# Altium integrated library Resistor 0603.IntLib: 149 symbols (part 1 of 2)
Pins are listed as number, name and electrical type; pins without a type are passive.

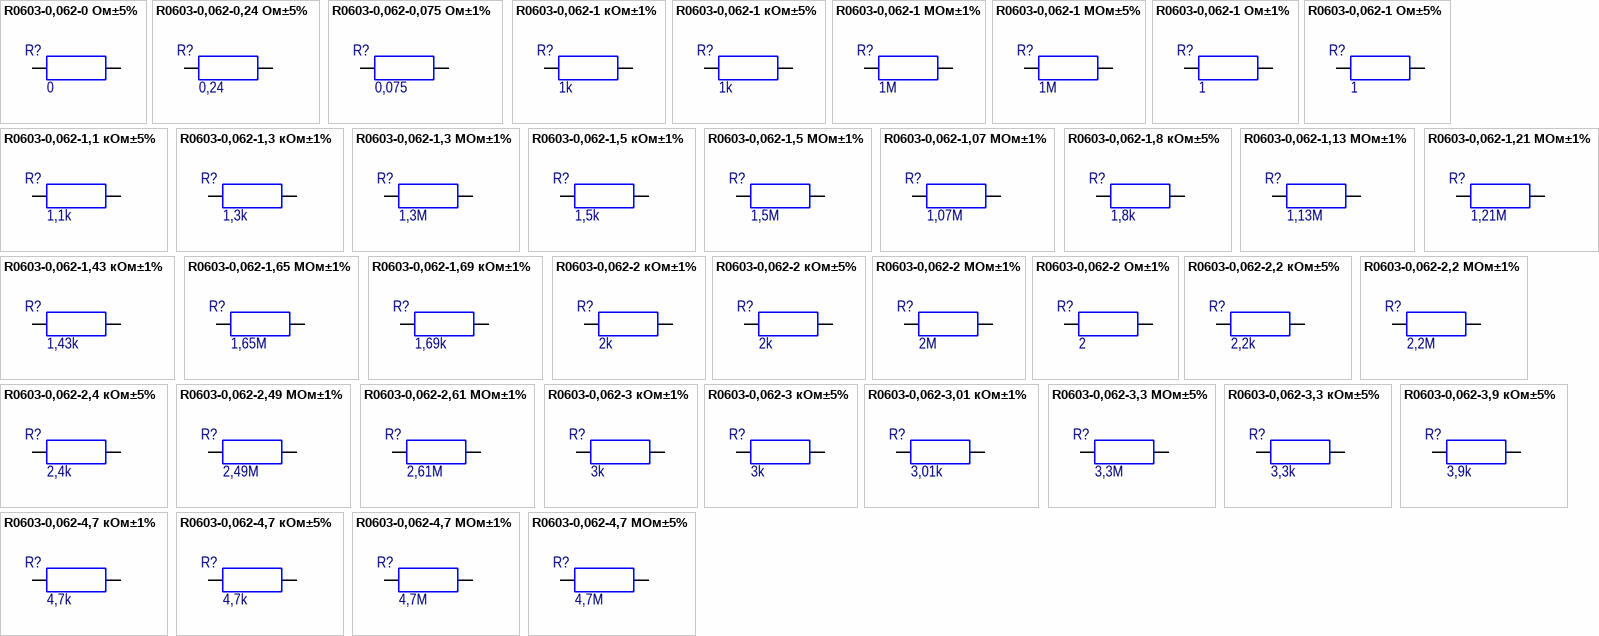
[diagram p0: symbols R0603-0,062-0 Ом±5% to R0603-0,062-4,7 МОм±5%]

## R0603-0,062-0 Ом±5%
designator R?  value 0
RES 0.0 OHM 1/10W JUMP 0603 SMD; Manufacturer: Vishay Dale; ManufacturerPartNumber: CRCW06030000Z0; Group: 9130; RegulationProcent: 10; TypeName: Резистор; Distributor: Digi-Key; DistributorPartNumber: 541-0.0GCT-ND; LatestRevisionDate: 10.07.2013; Library: Resistor 0603; Package: 1608 [0603]; Published: 10.07.2013; Publisher: Konon DI
footprint RESC1608N [0603] (Chip Resistor, Body 1.6x0.8mm, IPC Medium Density)
signal-integrity model Resistor
pins: 1, 2

## R0603-0,062-0,24 Ом±5%
designator R?  value 0,24
RES SMD 0.24 OHM 5% 1/10W 0603; Manufacturer: Vishay Dale; ManufacturerPartNumber: RCWL0603R240JQ; Group: 9130; RegulationProcent: 10; TypeName: Резистор; Distributor: Digi-Key; DistributorPartNumber: RCWL.24CCT-ND; LatestRevisionDate: 24.05.2016; Library: Resistor 0603; Package: 1608 [0603]; Published: 24.05.2016; Publisher: Stanchik A
footprint RESC1608N [0603] (Chip Resistor, Body 1.6x0.8mm, IPC Medium Density)
signal-integrity model Resistor
pins: 1, 2

## R0603-0,062-0,075 Ом±1%
designator R?  value 0,075
RES SMD 0.075 OHM 1% 1/5W 0603; Manufacturer: Vishay Dale; ManufacturerPartNumber: RCWE060375L0FN; Group: 9130; RegulationProcent: 10; TypeName: Резистор; Distributor: Digi-Key; DistributorPartNumber: 541-2718-1-ND; LatestRevisionDate: 02.05.2016; Library: Resistor 0603; Package: 1608 [0603]; Published: 02.05.2016; Publisher: Stanchik A
footprint RESC1608N [0603] (Chip Resistor, Body 1.6x0.8mm, IPC Medium Density)
signal-integrity model Resistor
pins: 1, 2

## R0603-0,062-1 кОм±1%
designator R?  value 1k
RES 1.00K OHM 1/10W 1% 0603 SMD; Manufacturer: Vishay Dale; ManufacturerPartNumber: CRCW06031K00FK; Group: 9130; RegulationProcent: 10; TypeName: Резистор; Distributor: Digi-Key; DistributorPartNumber: 541-1.00KHDKR-ND; LatestRevisionDate: 09.07.2014; Library: Resistor 0603; Package: 1608 [0603]; Published: 09.07.2014; Publisher: Stanchik A
footprint RESC1608N [0603] (Chip Resistor, Body 1.6x0.8mm, IPC Medium Density)
signal-integrity model Resistor
pins: 1, 2

## R0603-0,062-1 кОм±5%
designator R?  value 1k
RES 1.0K OHM 1/10W 5% 0603 SMD; Manufacturer: Vishay Dale; ManufacturerPartNumber: CRCW06031K00JN; Group: 9130; RegulationProcent: 10; TypeName: Резистор; Distributor: Digi-Key; DistributorPartNumber: 541-1.0KGCT-ND; LatestRevisionDate: 10.07.2013; Library: Resistor 0603; Package: 1608 [0603]; Published: 10.07.2013; Publisher: Konon DI
footprint RESC1608N [0603] (Chip Resistor, Body 1.6x0.8mm, IPC Medium Density)
signal-integrity model Resistor
pins: 1, 2

## R0603-0,062-1 МОм±1%
designator R?  value 1M
RES 1.00M OHM 1/10W 1% 0603 SMD; Manufacturer: Vishay Dale; ManufacturerPartNumber: CRCW06031M00FK; Group: 9130; RegulationProcent: 10; TypeName: Резистор; Distributor: Digi-Key; DistributorPartNumber: 541-1.00MHDKR-ND; LatestRevisionDate: 23.10.2014; Library: Resistor 0603; Package: 1608 [0603]; Published: 23.10.2014; Publisher: Stanchik A
footprint RESC1608N [0603] (Chip Resistor, Body 1.6x0.8mm, IPC Medium Density)
signal-integrity model Resistor
pins: 1, 2

## R0603-0,062-1 МОм±5%
designator R?  value 1M
RES 1.00M OHM 1/10W 5% 0603 SMD; Manufacturer: Vishay Dale; ManufacturerPartNumber: CRCW06031M00JN; Group: 9130; RegulationProcent: 10; TypeName: Резистор; Distributor: Digi-Key; DistributorPartNumber: 541-1.0MGCT-ND; LatestRevisionDate: 05.03.2015; Library: Resistor 0603; Package: 1608 [0603]; Published: 05.03.2015; Publisher: Stanchik A
footprint RESC1608N [0603] (Chip Resistor, Body 1.6x0.8mm, IPC Medium Density)
signal-integrity model Resistor
pins: 1, 2

## R0603-0,062-1 Ом±1%
designator R?  value 1
RES 1.00 OHM 1/10W 1% 0603 SMD; Manufacturer: Vishay Dale; ManufacturerPartNumber: CRCW06031R00FK; Group: 9130; RegulationProcent: 10; TypeName: Резистор; Distributor: Digi-Key; DistributorPartNumber: 541-1.00HHCT-ND; LatestRevisionDate: 10.07.2013; Library: Resistor 0603; Package: 1608 [0603]; Published: 10.07.2013; Publisher: Konon DI
footprint RESC1608N [0603] (Chip Resistor, Body 1.6x0.8mm, IPC Medium Density)
signal-integrity model Resistor
pins: 1, 2

## R0603-0,062-1 Ом±5%
designator R?  value 1
RES 1.0 OHM 1/10W 5% 0603 SMD; Manufacturer: Vishay Dale; ManufacturerPartNumber: CRCW06031R00JN; Group: 9130; RegulationProcent: 10; TypeName: Резистор; Distributor: Digi-Key; DistributorPartNumber: 541-1.0GCT-ND; LatestRevisionDate: 10.07.2013; Library: Resistor 0603; Package: 1608 [0603]; Published: 10.07.2013; Publisher: Konon DI
footprint RESC1608N [0603] (Chip Resistor, Body 1.6x0.8mm, IPC Medium Density)
signal-integrity model Resistor
pins: 1, 2

## R0603-0,062-1,1 кОм±5%
designator R?  value 1,1k
RES 1.1K OHM 1/10W 5% 0603 SMD; Manufacturer: Vishay Dale; ManufacturerPartNumber: CRCW06031K10JN; Group: 9130; RegulationProcent: 10; TypeName: Резистор; Distributor: Digi-Key; DistributorPartNumber: 541-1.1KGCT-ND; LatestRevisionDate: 10.07.2013; Library: Resistor 0603; Package: 1608 [0603]; Published: 10.07.2013; Publisher: Konon DI
footprint RESC1608N [0603] (Chip Resistor, Body 1.6x0.8mm, IPC Medium Density)
signal-integrity model Resistor
pins: 1, 2

## R0603-0,062-1,3 кОм±1%
designator R?  value 1,3k
RES SMD 1.3K OHM 1% 1/10W 0603; Manufacturer: Vishay Dale; ManufacturerPartNumber: CRCW06031K30FK; Group: 9130; RegulationProcent: 10; TypeName: Резистор; Distributor: Digi-Key; DistributorPartNumber: 541-1.30KHCT-ND; LatestRevisionDate: 14.07.2017; Library: Resistor 0603; Package: 1608 [0603]; Published: 14.07.2017; Publisher: Stanchik A
footprint RESC1608N [0603] (Chip Resistor, Body 1.6x0.8mm, IPC Medium Density)
signal-integrity model Resistor
pins: 1, 2

## R0603-0,062-1,3 МОм±1%
designator R?  value 1,3M
RES SMD 1.3M OHM 1% 1/10W 0603; Manufacturer: Vishay Dale; ManufacturerPartNumber: CRCW06031M30FK; Group: 9130; RegulationProcent: 10; TypeName: Резистор; Distributor: Digi-Key; DistributorPartNumber: 541-1.30MHCT-ND; LatestRevisionDate: 26.10.2016; Library: Resistor 0603; Package: 1608 [0603]; Published: 26.10.2016; Publisher: Stanchik A
footprint RESC1608N [0603] (Chip Resistor, Body 1.6x0.8mm, IPC Medium Density)
signal-integrity model Resistor
pins: 1, 2

## R0603-0,062-1,5 кОм±1%
designator R?  value 1,5k
RES SMD 1.5K OHM 1% 1/10W 0603; Manufacturer: Vishay Dale; ManufacturerPartNumber: CRCW06031K50FK; Group: 9130; RegulationProcent: 10; TypeName: Резистор; Distributor: Digi-Key; DistributorPartNumber: 541-1.50KHCT-ND; LatestRevisionDate: 16.07.2015; Library: Resistor 0603; Package: 1608 [0603]; Published: 16.07.2015; Publisher: Stanchik A
footprint RESC1608N [0603] (Chip Resistor, Body 1.6x0.8mm, IPC Medium Density)
signal-integrity model Resistor
pins: 1, 2

## R0603-0,062-1,5 МОм±1%
designator R?  value 1,5M
RES SMD 1.5M OHM 1% 1/10W 0603; Manufacturer: Vishay Dale; ManufacturerPartNumber: CRCW06031M50FK; Group: 9130; RegulationProcent: 10; TypeName: Резистор; Distributor: Digi-Key; DistributorPartNumber: 541-1.50MHCT-ND; LatestRevisionDate: 10.01.2015; Library: Resistor 0603; Package: 1608 [0603]; Published: 10.01.2015; Publisher: Stanchik A
footprint RESC1608N [0603] (Chip Resistor, Body 1.6x0.8mm, IPC Medium Density)
signal-integrity model Resistor
pins: 1, 2

## R0603-0,062-1,07 МОм±1%
designator R?  value 1,07M
RES SMD 1.07M OHM 1% 1/10W 0603; Manufacturer: Vishay Dale; ManufacturerPartNumber: CRCW06031M07FK; Group: 9130; RegulationProcent: 10; TypeName: Резистор; Distributor: Digi-Key; DistributorPartNumber: 541-1.07MHCT-ND; LatestRevisionDate: 14.07.2017; Library: Resistor 0603; Package: 1608 [0603]; Published: 14.07.2017; Publisher: Stanchik A
footprint RESC1608N [0603] (Chip Resistor, Body 1.6x0.8mm, IPC Medium Density)
signal-integrity model Resistor
pins: 1, 2

## R0603-0,062-1,8 кОм±5%
designator R?  value 1,8k
RES 1.8K OHM 1/10W 5% 0603 SMD; Manufacturer: Vishay Dale; ManufacturerPartNumber: CRCW06031K80JN; Group: 9130; RegulationProcent: 10; TypeName: Резистор; Distributor: Digi-Key; DistributorPartNumber: 541-1.8KGDKR-ND; LatestRevisionDate: 10.07.2014; Library: Resistor 0603; Package: 1608 [0603]; Published: 10.07.2014; Publisher: Stanchik A
footprint RESC1608N [0603] (Chip Resistor, Body 1.6x0.8mm, IPC Medium Density)
signal-integrity model Resistor
pins: 1, 2

## R0603-0,062-1,13 МОм±1%
designator R?  value 1,13M
RES 1.13M OHM 1/10W 1% 0603 SMD; Manufacturer: Vishay Dale; ManufacturerPartNumber: CRCW06031M13FK; Group: 9130; RegulationProcent: 10; TypeName: Резистор; Distributor: Digi-Key; DistributorPartNumber: 541-1.13MHCT-ND; LatestRevisionDate: 10.07.2013; Library: Resistor 0603; Package: 1608 [0603]; Published: 10.07.2013; Publisher: Konon DI
footprint RESC1608N [0603] (Chip Resistor, Body 1.6x0.8mm, IPC Medium Density)
signal-integrity model Resistor
pins: 1, 2

## R0603-0,062-1,21 МОм±1%
designator R?  value 1,21M
RES 1.21M OHM 1/10W 1% 0603 SMD; Manufacturer: Vishay Dale; ManufacturerPartNumber: CRCW06031M21FK; Group: 9130; RegulationProcent: 10; TypeName: Резистор; Distributor: Digi-Key; DistributorPartNumber: 541-1.21MHCT-ND; LatestRevisionDate: 10.07.2013; Library: Resistor 0603; Package: 1608 [0603]; Published: 10.07.2013; Publisher: Konon DI
footprint RESC1608N [0603] (Chip Resistor, Body 1.6x0.8mm, IPC Medium Density)
signal-integrity model Resistor
pins: 1, 2

## R0603-0,062-1,43 кОм±1%
designator R?  value 1,43k
RES 1.43K OHM 1/10W 1% 0603 SMD; Manufacturer: Vishay Dale; ManufacturerPartNumber: CRCW06031K43FK; Group: 9130; RegulationProcent: 10; TypeName: Резистор; Distributor: Digi-Key; DistributorPartNumber: 541-1.43KHDKR-ND; LatestRevisionDate: 09.07.2014; Library: Resistor 0603; Package: 1608 [0603]; Published: 09.07.2014; Publisher: Stanchik A
footprint RESC1608N [0603] (Chip Resistor, Body 1.6x0.8mm, IPC Medium Density)
signal-integrity model Resistor
pins: 1, 2

## R0603-0,062-1,65 МОм±1%
designator R?  value 1,65M
RES SMD 1.65M OHM 1% 1/10W 0603; Manufacturer: Vishay Dale; ManufacturerPartNumber: CRCW06031M65FK; Group: 9130; RegulationProcent: 10; TypeName: Резистор; Distributor: Digi-Key; DistributorPartNumber: 541-1.65MHCT-ND; LatestRevisionDate: 27.10.2016; Library: Resistor 0603; Package: 1608 [0603]; Published: 27.10.2016; Publisher: Stanchik A
footprint RESC1608N [0603] (Chip Resistor, Body 1.6x0.8mm, IPC Medium Density)
signal-integrity model Resistor
pins: 1, 2

## R0603-0,062-1,69 кОм±1%
designator R?  value 1,69k
RES SMD 1.69K OHM 1% 1/10W 0603; Manufacturer: Vishay Dale; ManufacturerPartNumber: CRCW06031K69FK; Group: 9130; RegulationProcent: 10; TypeName: Резистор; Distributor: Digi-Key; DistributorPartNumber: 541-1.69KHCT-ND; LatestRevisionDate: 15.04.2016; Library: Resistor 0603; Package: 1608 [0603]; Published: 15.04.2016; Publisher: Stanchik A
footprint RESC1608N [0603] (Chip Resistor, Body 1.6x0.8mm, IPC Medium Density)
signal-integrity model Resistor
pins: 1, 2

## R0603-0,062-2 кОм±1%
designator R?  value 2k
RES 2.00K OHM 1/10W 1% 0603 SMD; Manufacturer: Vishay Dale; ManufacturerPartNumber: CRCW06032K00FK; Group: 9130; RegulationProcent: 10; TypeName: Резистор; Distributor: Digi-Key; DistributorPartNumber: 541-2.00KHDKR-ND; LatestRevisionDate: 09.07.2014; Library: Resistor 0603; Package: 1608 [0603]; Published: 09.07.2014; Publisher: Stanchik A
footprint RESC1608N [0603] (Chip Resistor, Body 1.6x0.8mm, IPC Medium Density)
signal-integrity model Resistor
pins: 1, 2

## R0603-0,062-2 кОм±5%
designator R?  value 2k
RES SMD 2K OHM 5% 1/10W 0603; Manufacturer: Vishay Dale; ManufacturerPartNumber: CRCW06032K00JN; Group: 9130; RegulationProcent: 10; TypeName: Резистор; Distributor: Digi-Key; DistributorPartNumber: 541-2.0KGCT-ND; LatestRevisionDate: 01.11.2016; Library: Resistor 0603; Package: 1608 [0603]; Published: 01.11.2016; Publisher: Stanchik A
footprint RESC1608N [0603] (Chip Resistor, Body 1.6x0.8mm, IPC Medium Density)
signal-integrity model Resistor
pins: 1, 2

## R0603-0,062-2 МОм±1%
designator R?  value 2M
RES SMD 2M OHM 1% 1/10W 0603; Manufacturer: Vishay Dale; ManufacturerPartNumber: CRCW06032M00FK; Group: 9130; RegulationProcent: 10; TypeName: Резистор; Distributor: Digi-Key; DistributorPartNumber: 541-2.00MHCT-ND; LatestRevisionDate: 10.01.2015; Library: Resistor 0603; Package: 1608 [0603]; Published: 10.01.2015; Publisher: Stanchik A
footprint RESC1608N [0603] (Chip Resistor, Body 1.6x0.8mm, IPC Medium Density)
signal-integrity model Resistor
pins: 1, 2

## R0603-0,062-2 Ом±1%
designator R?  value 2
RES SMD 2 OHM 1% 1/10W 0603; Manufacturer: Vishay Dale; ManufacturerPartNumber: CRCW06032R00FK; Group: 9130; RegulationProcent: 10; TypeName: Резистор; Distributor: Digi-Key; DistributorPartNumber: 541-2.00HHCT-ND; LatestRevisionDate: 23.10.2017; Library: Resistor 0603; Package: 1608 [0603]; Published: 23.10.2017; Publisher: Stanchik A
footprint RESC1608N [0603] (Chip Resistor, Body 1.6x0.8mm, IPC Medium Density)
signal-integrity model Resistor
pins: 1, 2

## R0603-0,062-2,2 кОм±5%
designator R?  value 2,2k
RES 2.2K OHM 1/10W 5% 0603 SMD; Manufacturer: Vishay Dale; ManufacturerPartNumber: CRCW06032K20JN; Group: 9130; RegulationProcent: 10; TypeName: Резистор; Distributor: Digi-Key; DistributorPartNumber: 541-2.2KGCT-ND; LatestRevisionDate: 10.07.2013; Library: Resistor 0603; Package: 1608 [0603]; Published: 10.07.2013; Publisher: Konon DI
footprint RESC1608N [0603] (Chip Resistor, Body 1.6x0.8mm, IPC Medium Density)
signal-integrity model Resistor
pins: 1, 2

## R0603-0,062-2,2 МОм±1%
designator R?  value 2,2M
RES SMD 2.2M OHM 1% 1/10W 0603; Manufacturer: Vishay Dale; ManufacturerPartNumber: CRCW06032M20FK; Group: 9130; RegulationProcent: 10; TypeName: Резистор; Distributor: Digi-Key; DistributorPartNumber: 541-2.20MHCT-ND; LatestRevisionDate: 07.10.2016; Library: Resistor 0603; Package: 1608 [0603]; Published: 07.10.2016; Publisher: Stanchik A
footprint RESC1608N [0603] (Chip Resistor, Body 1.6x0.8mm, IPC Medium Density)
signal-integrity model Resistor
pins: 1, 2

## R0603-0,062-2,4 кОм±5%
designator R?  value 2,4k
RES SMD 2.4K OHM 5% 1/10W 0603; Manufacturer: Vishay Dale; ManufacturerPartNumber: CRCW06032K40JN; Group: 9130; RegulationProcent: 10; TypeName: Резистор; Distributor: Digi-Key; DistributorPartNumber: 541-2.4KGCT-ND; LatestRevisionDate: 01.11.2016; Library: Resistor 0603; Package: 1608 [0603]; Published: 01.11.2016; Publisher: Stanchik A
footprint RESC1608N [0603] (Chip Resistor, Body 1.6x0.8mm, IPC Medium Density)
signal-integrity model Resistor
pins: 1, 2

## R0603-0,062-2,49 МОм±1%
designator R?  value 2,49M
RES SMD 2.49M OHM 1% 1/10W 0603; Manufacturer: Vishay Dale; ManufacturerPartNumber: CRCW06032M49FK; Group: 9130; RegulationProcent: 10; TypeName: Резистор; Distributor: Digi-Key; DistributorPartNumber: 541-2.49MHCT-ND; LatestRevisionDate: 14.07.2017; Library: Resistor 0603; Package: 1608 [0603]; Published: 14.07.2017; Publisher: Stanchik A
footprint RESC1608N [0603] (Chip Resistor, Body 1.6x0.8mm, IPC Medium Density)
signal-integrity model Resistor
pins: 1, 2

## R0603-0,062-2,61 МОм±1%
designator R?  value 2,61M
RES SMD 2.61M OHM 1% 1/10W 0603; Manufacturer: Vishay Dale; ManufacturerPartNumber: CRCW06032M61FK; Group: 9130; RegulationProcent: 10; TypeName: Резистор; Distributor: Digi-Key; DistributorPartNumber: 541-2.61MHCT-ND; LatestRevisionDate: 14.07.2017; Library: Resistor 0603; Package: 1608 [0603]; Published: 14.07.2017; Publisher: Stanchik A
footprint RESC1608N [0603] (Chip Resistor, Body 1.6x0.8mm, IPC Medium Density)
signal-integrity model Resistor
pins: 1, 2

## R0603-0,062-3 кОм±1%
designator R?  value 3k
RES SMD 3K OHM 1% 1/10W 0603; Manufacturer: Vishay Dale; ManufacturerPartNumber: CRCW06033K00FK; Group: 9130; RegulationProcent: 10; TypeName: Резистор; Distributor: Digi-Key; DistributorPartNumber: 541-3.00KHCT-ND; LatestRevisionDate: 29.12.2016; Library: Resistor 0603; Package: 1608 [0603]; Published: 29.12.2016; Publisher: Stanchik A
footprint RESC1608N [0603] (Chip Resistor, Body 1.6x0.8mm, IPC Medium Density)
signal-integrity model Resistor
pins: 1, 2

## R0603-0,062-3 кОм±5%
designator R?  value 3k
RES SMD 3K OHM 5% 1/10W 0603; Manufacturer: Vishay Dale; ManufacturerPartNumber: CRCW06033K00JN; Group: 9130; RegulationProcent: 10; TypeName: Резистор; Distributor: Digi-Key; DistributorPartNumber: 541-3.0KGCT-ND; LatestRevisionDate: 25.06.2015; Library: Resistor 0603; Package: 1608 [0603]; Published: 25.06.2015; Publisher: Stanchik A
footprint RESC1608N [0603] (Chip Resistor, Body 1.6x0.8mm, IPC Medium Density)
signal-integrity model Resistor
pins: 1, 2

## R0603-0,062-3,01 кОм±1%
designator R?  value 3,01k
RES SMD 3.01K OHM 1% 1/10W 0603; Manufacturer: Vishay Dale; ManufacturerPartNumber: CRCW06033K01FK; Group: 9130; RegulationProcent: 10; TypeName: Резистор; Distributor: Digi-Key; DistributorPartNumber: 541-3.01KHCT-ND; LatestRevisionDate: 17.02.2015; Library: Resistor 0603; Package: 1608 [0603]; Published: 17.02.2015; Publisher: Stanchik A
footprint RESC1608N [0603] (Chip Resistor, Body 1.6x0.8mm, IPC Medium Density)
signal-integrity model Resistor
pins: 1, 2

## R0603-0,062-3,3 MОм±5%
designator R?  value 3,3M
RES 3.3M OHM 1/10W 5% 0603 SMD; Manufacturer: Vishay Dale; ManufacturerPartNumber: CRCW06033M30JN; Group: 9130; RegulationProcent: 10; TypeName: Резистор; Distributor: Digi-Key; DistributorPartNumber: 541-3.3MGCT-ND; LatestRevisionDate: 10.07.2013; Library: Resistor 0603; Package: 1608 [0603]; Published: 03.10.2013; Publisher: Auchinik
footprint RESC1608N [0603] (Chip Resistor, Body 1.6x0.8mm, IPC Medium Density)
signal-integrity model Resistor
pins: 1, 2

## R0603-0,062-3,3 кОм±5%
designator R?  value 3,3k
RES 3.3K OHM 1/10W 5% 0603 SMD; Manufacturer: Vishay Dale; ManufacturerPartNumber: CRCW06033K30JN; Group: 9130; RegulationProcent: 10; TypeName: Резистор; Distributor: Digi-Key; DistributorPartNumber: 541-3.3KGCT-ND; LatestRevisionDate: 10.07.2013; Library: Resistor 0603; Package: 1608 [0603]; Published: 10.07.2013; Publisher: Konon DI
footprint RESC1608N [0603] (Chip Resistor, Body 1.6x0.8mm, IPC Medium Density)
signal-integrity model Resistor
pins: 1, 2

## R0603-0,062-3,9 кОм±5%
designator R?  value 3,9k
RES SMD 3.9K OHM 5% 1/10W 0603; Manufacturer: Vishay Dale; ManufacturerPartNumber: CRCW06033K90JN; Group: 9130; RegulationProcent: 10; TypeName: Резистор; Distributor: Digi-Key; DistributorPartNumber: 541-3.9KGCT-ND; LatestRevisionDate: 20.09.2016; Library: Resistor 0603; Package: 1608 [0603]; Published: 20.09.2016; Publisher: Stanchik A
footprint RESC1608N [0603] (Chip Resistor, Body 1.6x0.8mm, IPC Medium Density)
signal-integrity model Resistor
pins: 1, 2

## R0603-0,062-4,7 кОм±1%
designator R?  value 4,7k
RES SMD 4.7K OHM 1% 1/10W 0603; Manufacturer: Vishay Dale; ManufacturerPartNumber: CRCW06034K70FK; Group: 9130; RegulationProcent: 10; TypeName: Резистор; Distributor: Digi-Key; DistributorPartNumber: 541-4.70KHCT-ND; LatestRevisionDate: 16.01.2017; Library: Resistor 0603; Package: 1608 [0603]; Published: 16.01.2017; Publisher: Stanchik A
footprint RESC1608N [0603] (Chip Resistor, Body 1.6x0.8mm, IPC Medium Density)
signal-integrity model Resistor
pins: 1, 2

## R0603-0,062-4,7 кОм±5%
designator R?  value 4,7k
RES 4.7K OHM 1/10W 5% 0603 SMD; Manufacturer: Vishay Dale; ManufacturerPartNumber: CRCW06034K70JN; Group: 9130; RegulationProcent: 10; TypeName: Резистор; Distributor: Digi-Key; DistributorPartNumber: 541-4.7KGCT-ND; LatestRevisionDate: 10.07.2013; Library: Resistor 0603; Package: 1608 [0603]; Published: 10.07.2013; Publisher: Konon DI
footprint RESC1608N [0603] (Chip Resistor, Body 1.6x0.8mm, IPC Medium Density)
signal-integrity model Resistor
pins: 1, 2

## R0603-0,062-4,7 МОм±1%
designator R?  value 4,7M
RES SMD 4.7M OHM 1% 1/10W 0603; Manufacturer: Vishay Dale; ManufacturerPartNumber: CRCW06034M70FK; Group: 9130; RegulationProcent: 10; TypeName: Резистор; Distributor: Digi-Key; DistributorPartNumber: 541-4.70MHCT-ND; LatestRevisionDate: 10.01.2015; Library: Resistor 0603; Package: 1608 [0603]; Published: 10.01.2015; Publisher: Stanchik A
footprint RESC1608N [0603] (Chip Resistor, Body 1.6x0.8mm, IPC Medium Density)
signal-integrity model Resistor
pins: 1, 2

## R0603-0,062-4,7 МОм±5%
designator R?  value 4,7M
RES SMD 4.7M OHM 5% 1/10W 0603; Manufacturer: Vishay Dale; ManufacturerPartNumber: CRCW06034M70JN; Group: 9130; RegulationProcent: 10; TypeName: Резистор; Distributor: Digi-Key; DistributorPartNumber: 541-4.7MGCT-ND; LatestRevisionDate: 05.04.2017; Library: Resistor 0603; Package: 1608 [0603]; Published: 05.04.2017; Publisher: Stanchik A
footprint RESC1608N [0603] (Chip Resistor, Body 1.6x0.8mm, IPC Medium Density)
signal-integrity model Resistor
pins: 1, 2

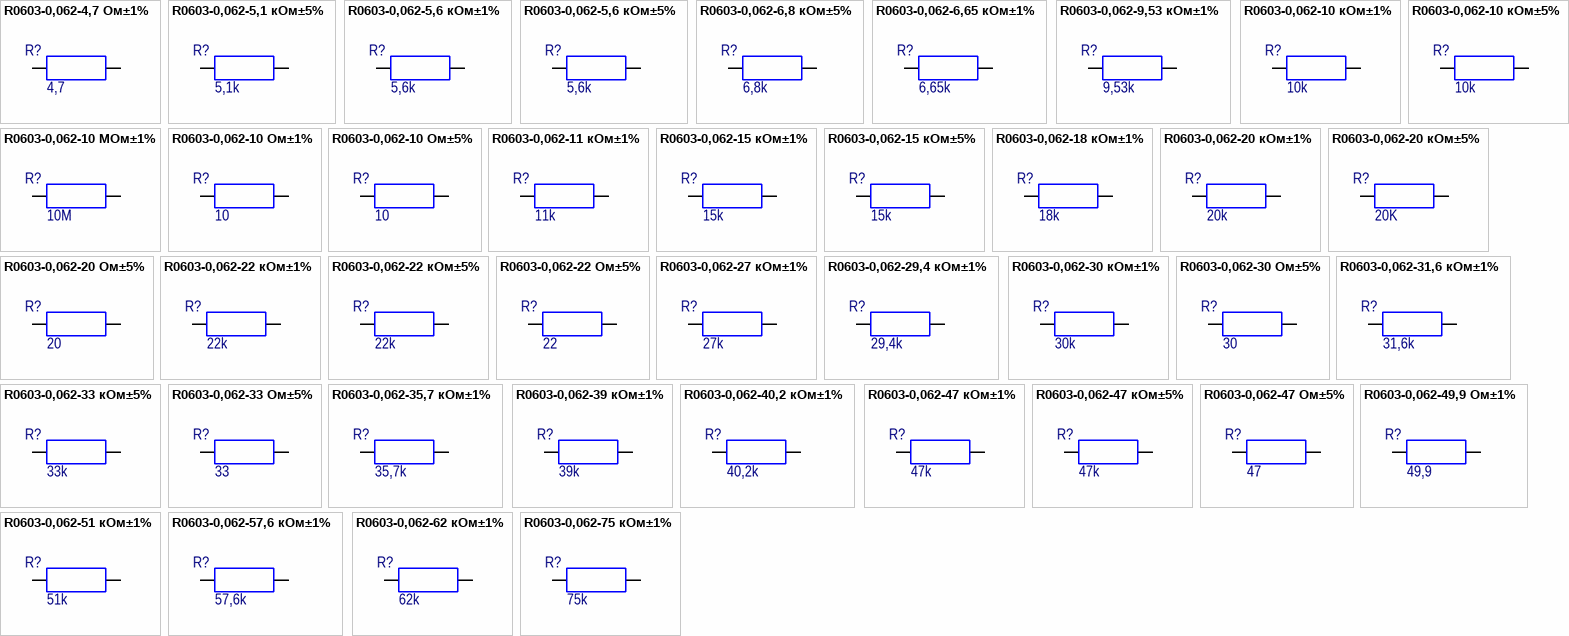
[diagram p1: symbols R0603-0,062-4,7 Ом±1% to R0603-0,062-75 кОм±1%]

## R0603-0,062-4,7 Ом±1%
designator R?  value 4,7
RES SMD 4.7 OHM 1% 1/10W 0603; Manufacturer: Vishay Dale; ManufacturerPartNumber: CRCW06034R70FK; Group: 9130; RegulationProcent: 10; TypeName: Резистор; Distributor: Digi-Key; DistributorPartNumber: 541-4.70HHCT-ND; LatestRevisionDate: 18.03.2015; Library: Resistor 0603; Package: 1608 [0603]; Published: 18.03.2015; Publisher: Stanchik A
footprint RESC1608N [0603] (Chip Resistor, Body 1.6x0.8mm, IPC Medium Density)
signal-integrity model Resistor
pins: 1, 2

## R0603-0,062-5,1 кОм±5%
designator R?  value 5,1k
RES SMD 5.1K OHM 5% 1/10W 0603; Manufacturer: Vishay Dale; ManufacturerPartNumber: CRCW06035K10JN; Group: 9130; RegulationProcent: 10; TypeName: Резистор; Distributor: Digi-Key; DistributorPartNumber: 541-5.1KGCT-ND; LatestRevisionDate: 10.01.2015; Library: Resistor 0603; Package: 1608 [0603]; Published: 10.01.2015; Publisher: Stanchik A
footprint RESC1608N [0603] (Chip Resistor, Body 1.6x0.8mm, IPC Medium Density)
signal-integrity model Resistor
pins: 1, 2

## R0603-0,062-5,6 кОм±1%
designator R?  value 5,6k
RES SMD 5.6K OHM 1% 1/10W 0603; Manufacturer: Vishay Dale; ManufacturerPartNumber: CRCW06035K60FK; Group: 9130; RegulationProcent: 10; TypeName: Резистор; Distributor: Digi-Key; DistributorPartNumber: 541-5.60KHCT-ND; LatestRevisionDate: 16.01.2017; Library: Resistor 0603; Package: 1608 [0603]; Published: 16.01.2017; Publisher: Stanchik A
footprint RESC1608N [0603] (Chip Resistor, Body 1.6x0.8mm, IPC Medium Density)
signal-integrity model Resistor
pins: 1, 2

## R0603-0,062-5,6 кОм±5%
designator R?  value 5,6k
RES SMD 5.6K OHM 5% 1/10W 0603; Manufacturer: Vishay Dale; ManufacturerPartNumber: CRCW06035K60JN; Group: 9130; RegulationProcent: 10; TypeName: Резистор; Distributor: Digi-Key; DistributorPartNumber: 541-5.6KGCT-ND; LatestRevisionDate: 20.09.2016; Library: Resistor 0603; Package: 1608 [0603]; Published: 20.09.2016; Publisher: Stanchik A
footprint RESC1608N [0603] (Chip Resistor, Body 1.6x0.8mm, IPC Medium Density)
signal-integrity model Resistor
pins: 1, 2

## R0603-0,062-6,8 кОм±5%
designator R?  value 6,8k
RES 6.8K OHM 1/10W 5% 0603 SMD; Manufacturer: Vishay Dale; ManufacturerPartNumber: CRCW06036K80JN; Group: 9130; RegulationProcent: 10; TypeName: Резистор; Distributor: Digi-Key; DistributorPartNumber: 541-6.8KGCT-ND; LatestRevisionDate: 10.07.2013; Library: Resistor 0603; Package: 1608 [0603]; Published: 03.11.2013; Publisher: Auchynik
footprint RESC1608N [0603] (Chip Resistor, Body 1.6x0.8mm, IPC Medium Density)
signal-integrity model Resistor
pins: 1, 2

## R0603-0,062-6,65 кОм±1%
designator R?  value 6,65k
RES SMD 6.65K OHM 1% 1/10W 0603; Manufacturer: Vishay Dale; ManufacturerPartNumber: CRCW06036K65FK; Group: 9130; RegulationProcent: 10; TypeName: Резистор; Distributor: Digi-Key; DistributorPartNumber: 541-6.65KHCT-ND; LatestRevisionDate: 04.03.2016; Library: Resistor 0603; Package: 1608 [0603]; Published: 04.03.2016; Publisher: Stanchik A
footprint RESC1608N [0603] (Chip Resistor, Body 1.6x0.8mm, IPC Medium Density)
signal-integrity model Resistor
pins: 1, 2

## R0603-0,062-9,53 кОм±1%
designator R?  value 9,53k
RES 9.53K OHM 1/10W 1% 0603 SMD; Manufacturer: Vishay Dale; ManufacturerPartNumber: CRCW06039K53FK; Group: 9130; RegulationProcent: 10; TypeName: Резистор; Distributor: Digi-Key; DistributorPartNumber: 541-9.53KHCT-ND; LatestRevisionDate: 31.03.2017; Library: Resistor 0603; Package: 1608 [0603]; Published: 09.07.2014; Publisher: Stanchik A
footprint RESC1608N [0603] (Chip Resistor, Body 1.6x0.8mm, IPC Medium Density)
signal-integrity model Resistor
pins: 1, 2

## R0603-0,062-10 кОм±1%
designator R?  value 10k
RES 10.0K OHM 1/10W 1% 0603 SMD; Manufacturer: Vishay Dale; ManufacturerPartNumber: CRCW060310K0FK; Group: 9130; RegulationProcent: 10; TypeName: Резистор; Distributor: Digi-Key; DistributorPartNumber: 541-10.0KHCT-ND; LatestRevisionDate: 10.07.2013; Library: Resistor 0603; Package: 1608 [0603]; Published: 10.07.2013; Publisher: Konon DI
footprint RESC1608N [0603] (Chip Resistor, Body 1.6x0.8mm, IPC Medium Density)
signal-integrity model Resistor
pins: 1, 2

## R0603-0,062-10 кОм±5%
designator R?  value 10k
RES 10K OHM 1/10W 5% 0603 SMD; Manufacturer: Vishay Dale; ManufacturerPartNumber: CRCW060310K0JN; Group: 9130; RegulationProcent: 10; TypeName: Резистор; Distributor: Digi-Key; DistributorPartNumber: 541-10KGCT-ND; LatestRevisionDate: 10.07.2013; Library: Resistor 0603; Package: 1608 [0603]; Published: 10.07.2013; Publisher: Konon DI
footprint RESC1608N [0603] (Chip Resistor, Body 1.6x0.8mm, IPC Medium Density)
signal-integrity model Resistor
pins: 1, 2

## R0603-0,062-10 МОм±1%
designator R?  value 10M
RES SMD 10M OHM 1% 1/10W 0603; Manufacturer: Vishay Dale; ManufacturerPartNumber: CRCW060310M0FK; Group: 9130; RegulationProcent: 10; TypeName: Резистор; Distributor: Digi-Key; DistributorPartNumber: 541-10.0MHCT-ND; LatestRevisionDate: 14.07.2017; Library: Resistor 0603; Package: 1608 [0603]; Published: 14.07.2017; Publisher: Stanchik A
footprint RESC1608N [0603] (Chip Resistor, Body 1.6x0.8mm, IPC Medium Density)
signal-integrity model Resistor
pins: 1, 2

## R0603-0,062-10 Ом±1%
designator R?  value 10
RES SMD 10 OHM 1% 1/10W 0603; Manufacturer: Vishay Dale; ManufacturerPartNumber: CRCW060310R0FK; Group: 9130; TypeName: Резистор; Distributor: Digi-Key; DistributorPartNumber: 541-2982-1-ND; LatestRevisionDate: 08.02.2018; Library: Resistor 0603; Package: 1608 [0603]; Published: 08.02.2018; Publisher: Stanchik A; RegulationProcent: 10
footprint RESC1608N [0603] (Chip Resistor, Body 1.6x0.8mm, IPC Medium Density)
signal-integrity model Resistor
pins: 1, 2

## R0603-0,062-10 Ом±5%
designator R?  value 10
RES 10 OHM 1/10W 5% 0603 SMD; Manufacturer: Vishay Dale; ManufacturerPartNumber: CRCW060310R0JN; Group: 9130; TypeName: Резистор; Distributor: Digi-Key; DistributorPartNumber: 541-10GCT-ND; LatestRevisionDate: 10.07.2013; Library: Resistor 0603; Package: 1608 [0603]; Published: 10.07.2013; Publisher: Konon DI; RegulationProcent: 10
footprint RESC1608N [0603] (Chip Resistor, Body 1.6x0.8mm, IPC Medium Density)
signal-integrity model Resistor
pins: 1, 2

## R0603-0,062-11 кОм±1%
designator R?  value 11k
RES 11.0K OHM 1/10W 1% 0603 SMD; Manufacturer: Vishay Dale; ManufacturerPartNumber: CRCW060311K0FK; Group: 9130; RegulationProcent: 10; TypeName: Резистор; Distributor: Digi-Key; DistributorPartNumber: 541-11.0KHDKR-ND; LatestRevisionDate: 09.07.2014; Library: Resistor 0603; Package: 1608 [0603]; Published: 09.07.2014; Publisher: Stanchik A
footprint RESC1608N [0603] (Chip Resistor, Body 1.6x0.8mm, IPC Medium Density)
signal-integrity model Resistor
pins: 1, 2

## R0603-0,062-15 кОм±1%
designator R?  value 15k
RES SMD 15K OHM 1% 1/10W 0603; Manufacturer: Vishay Dale; ManufacturerPartNumber: CRCW060315K0FK; Group: 9130; RegulationProcent: 10; TypeName: Резистор; Distributor: Digi-Key; DistributorPartNumber: 541-15.0KHCT-ND; LatestRevisionDate: 23.03.2017; Library: Resistor 0603; Package: 1608 [0603]; Published: 23.03.2017; Publisher: Stanchik A
footprint RESC1608N [0603] (Chip Resistor, Body 1.6x0.8mm, IPC Medium Density)
signal-integrity model Resistor
pins: 1, 2

## R0603-0,062-15 кОм±5%
designator R?  value 15k
RES SMD 15K OHM 5% 1/10W 0603; Manufacturer: Vishay Dale; ManufacturerPartNumber: CRCW060315K0JN; Group: 9130; RegulationProcent: 10; TypeName: Резистор; Distributor: Digi-Key; DistributorPartNumber: 541-15KGCT-ND; LatestRevisionDate: 17.02.2015; Library: Resistor 0603; Package: 1608 [0603]; Published: 17.02.2015; Publisher: Stanchik A
footprint RESC1608N [0603] (Chip Resistor, Body 1.6x0.8mm, IPC Medium Density)
signal-integrity model Resistor
pins: 1, 2

## R0603-0,062-18 кОм±1%
designator R?  value 18k
RES SMD 18K OHM 1% 1/10W 0603; Manufacturer: Vishay Dale; ManufacturerPartNumber: CRCW060318K0FK; Group: 9130; RegulationProcent: 10; TypeName: Резистор; Distributor: Digi-Key; DistributorPartNumber: 541-18.0KHCT-ND; LatestRevisionDate: 16.09.2015; Library: Resistor 0603; Package: 1608 [0603]; Published: 16.09.2015; Publisher: Stanchik A
footprint RESC1608N [0603] (Chip Resistor, Body 1.6x0.8mm, IPC Medium Density)
signal-integrity model Resistor
pins: 1, 2

## R0603-0,062-20 кОм±1%
designator R?  value 20k
RES SMD 20K OHM 1% 1/10W 0603; Manufacturer: Vishay Dale; ManufacturerPartNumber: CRCW060320K0FK; Group: 9130; RegulationProcent: 10; TypeName: Резистор; Distributor: Digi-Key; DistributorPartNumber: 541-20.0KHCT-ND; LatestRevisionDate: 16.07.2015; Library: Resistor 0603; Package: 1608 [0603]; Published: 16.07.2015; Publisher: Stanchik A
footprint RESC1608N [0603] (Chip Resistor, Body 1.6x0.8mm, IPC Medium Density)
signal-integrity model Resistor
pins: 1, 2

## R0603-0,062-20 кОм±5%
designator R?  value 20K
RES 20K OHM 1/10W 5% 0603 SMD; Manufacturer: Vishay Dale; ManufacturerPartNumber: CRCW060320K0JN; Group: 9130; RegulationProcent: 10; TypeName: Резистор; Distributor: Digi-Key; DistributorPartNumber: 541-20KGDKR-ND; LatestRevisionDate: 26.11.2013; Library: Resistor 0603; Package: 1608 [0603]; Published: 26.11.2013; Publisher: Stanchik A
footprint RESC1608N [0603] (Chip Resistor, Body 1.6x0.8mm, IPC Medium Density)
signal-integrity model Resistor
pins: 1, 2

## R0603-0,062-20 Ом±5%
designator R?  value 20
RES 20 OHM 1/10W 5% 0603 SMD; Manufacturer: Vishay Dale; ManufacturerPartNumber: CRCW060320R0JN; Group: 9130; RegulationProcent: 10; TypeName: Резистор; Distributor: Digi-Key; DistributorPartNumber: 541-20GCT-ND; LatestRevisionDate: 10.07.2013; Library: Resistor 0603; Package: 1608 [0603]; Published: 10.07.2013; Publisher: Konon DI
footprint RESC1608N [0603] (Chip Resistor, Body 1.6x0.8mm, IPC Medium Density)
signal-integrity model Resistor
pins: 1, 2

## R0603-0,062-22 кОм±1%
designator R?  value 22k
RES 22.0K OHM 1/10W 1% 0603 SMD; Manufacturer: Vishay Dale; ManufacturerPartNumber: CRCW060322K0FK; Group: 9130; RegulationProcent: 10; TypeName: Резистор; Distributor: Digi-Key; DistributorPartNumber: 541-22.0KHDKR-ND; LatestRevisionDate: 09.07.2014; Library: Resistor 0603; Package: 1608 [0603]; Published: 09.07.2014; Publisher: Stanchik A
footprint RESC1608N [0603] (Chip Resistor, Body 1.6x0.8mm, IPC Medium Density)
signal-integrity model Resistor
pins: 1, 2

## R0603-0,062-22 кОм±5%
designator R?  value 22k
RES SMD 22K OHM 5% 1/10W 0603; Manufacturer: Vishay Dale; ManufacturerPartNumber: CRCW060322K0JN; Group: 9130; RegulationProcent: 10; TypeName: Резистор; Distributor: Digi-Key; DistributorPartNumber: 541-22KGCT-ND; LatestRevisionDate: 09.03.2015; Library: Resistor 0603; Package: 1608 [0603]; Published: 09.03.2015; Publisher: Stanchik A
footprint RESC1608N [0603] (Chip Resistor, Body 1.6x0.8mm, IPC Medium Density)
signal-integrity model Resistor
pins: 1, 2

## R0603-0,062-22 Ом±5%
designator R?  value 22
RES 22 OHM 1/10W 5% 0603 SMD; Manufacturer: Vishay Dale; ManufacturerPartNumber: CRCW060322R0JN; Group: 9130; RegulationProcent: 10; TypeName: Резистор; Distributor: Digi-Key; DistributorPartNumber: 541-22GCT-ND; LatestRevisionDate: 10.07.2013; Library: Resistor 0603; Package: 1608 [0603]; Published: 10.07.2013; Publisher: Konon DI
footprint RESC1608N [0603] (Chip Resistor, Body 1.6x0.8mm, IPC Medium Density)
signal-integrity model Resistor
pins: 1, 2

## R0603-0,062-27 кОм±1%
designator R?  value 27k
RES SMD 27K OHM 1% 1/10W 0603; Manufacturer: Vishay Dale; ManufacturerPartNumber: CRCW060327K0FK; Group: 9130; RegulationProcent: 10; TypeName: Резистор; Distributor: Digi-Key; DistributorPartNumber: 541-27.0KHCT-ND; LatestRevisionDate: 22.11.2017; Library: Resistor 0603; Package: 1608 [0603]; Published: 22.11.2017; Publisher: Stanchik A
footprint RESC1608N [0603] (Chip Resistor, Body 1.6x0.8mm, IPC Medium Density)
signal-integrity model Resistor
pins: 1, 2

## R0603-0,062-29,4 кОм±1%
designator R?  value 29,4k
RES SMD 29.4K OHM 1% 1/10W 0603; Manufacturer: Vishay Dale; ManufacturerPartNumber: CRCW060329K4FK; Group: 9130; RegulationProcent: 10; TypeName: Резистор; Distributor: Digi-Key; DistributorPartNumber: 541-29.4KHCT-ND; LatestRevisionDate: 28.08.2017; Library: Resistor 0603; Package: 1608 [0603]; Published: 28.08.2017; Publisher: Stanchik A
footprint RESC1608N [0603] (Chip Resistor, Body 1.6x0.8mm, IPC Medium Density)
signal-integrity model Resistor
pins: 1, 2

## R0603-0,062-30 кОм±1%
designator R?  value 30k
RES SMD 30K OHM 1% 1/10W 0603; Manufacturer: Vishay Dale; ManufacturerPartNumber: CRCW060330K0FK; Group: 9130; RegulationProcent: 10; TypeName: Резистор; Distributor: Digi-Key; DistributorPartNumber: 541-30.0KHCT-ND; LatestRevisionDate: 25.04.2015; Library: Resistor 0603; Package: 1608 [0603]; Published: 25.04.2015; Publisher: Stanchik A
footprint RESC1608N [0603] (Chip Resistor, Body 1.6x0.8mm, IPC Medium Density)
signal-integrity model Resistor
pins: 1, 2

## R0603-0,062-30 Ом±5%
designator R?  value 30
RES SMD 30 OHM 5% 1/10W 0603; Manufacturer: Vishay Dale; ManufacturerPartNumber: CRCW060330R0JN; Group: 9130; RegulationProcent: 10; TypeName: Резистор; Distributor: Digi-Key; DistributorPartNumber: 541-30GCT-ND; LatestRevisionDate: 16.05.2017; Library: Resistor 0603; Package: 1608 [0603]; Published: 16.05.2017; Publisher: Stanchik A
footprint RESC1608N [0603] (Chip Resistor, Body 1.6x0.8mm, IPC Medium Density)
signal-integrity model Resistor
pins: 1, 2

## R0603-0,062-31,6 кОм±1%
designator R?  value 31,6k
RES SMD 31.6K OHM 1% 1/10W 0603; Manufacturer: Vishay Dale; ManufacturerPartNumber: CRCW060331K6FK; Group: 9130; RegulationProcent: 10; TypeName: Резистор; Distributor: Digi-Key; DistributorPartNumber: 541-31.6KHCT-ND; LatestRevisionDate: 10.01.2015; Library: Resistor 0603; Package: 1608 [0603]; Published: 10.01.2015; Publisher: Stanchik A
footprint RESC1608N [0603] (Chip Resistor, Body 1.6x0.8mm, IPC Medium Density)
signal-integrity model Resistor
pins: 1, 2

## R0603-0,062-33 кОм±5%
designator R?  value 33k
RES SMD 33K OHM 5% 1/10W 0603; Manufacturer: Vishay Dale; ManufacturerPartNumber: CRCW060333K0JN; Group: 9130; RegulationProcent: 10; TypeName: Резистор; Distributor: Digi-Key; DistributorPartNumber: 541-33KGCT-ND; LatestRevisionDate: 17.02.2015; Library: Resistor 0603; Package: 1608 [0603]; Published: 17.02.2015; Publisher: Stanchik A
footprint RESC1608N [0603] (Chip Resistor, Body 1.6x0.8mm, IPC Medium Density)
signal-integrity model Resistor
pins: 1, 2

## R0603-0,062-33 Ом±5%
designator R?  value 33
RES SMD 33 OHM 5% 1/10W 0603; Manufacturer: Vishay Dale; ManufacturerPartNumber: CRCW060333R0JN; Group: 9130; RegulationProcent: 10; TypeName: Резистор; Distributor: Digi-Key; DistributorPartNumber: 541-33GCT-ND; LatestRevisionDate: 18.03.2015; Library: Resistor 0603; Package: 1608 [0603]; Published: 18.03.2015; Publisher: Stanchik A
footprint RESC1608N [0603] (Chip Resistor, Body 1.6x0.8mm, IPC Medium Density)
signal-integrity model Resistor
pins: 1, 2

## R0603-0,062-35,7 кОм±1%
designator R?  value 35,7k
RES 35.7K OHM 1/10W 1% 0603 SMD; Manufacturer: Vishay Dale; ManufacturerPartNumber: CRCW060335K7FK; Group: 9130; RegulationProcent: 10; TypeName: Резистор; Distributor: Digi-Key; DistributorPartNumber: 541-35.7KHDKR-ND; LatestRevisionDate: 09.07.2014; Library: Resistor 0603; Package: 1608 [0603]; Published: 09.07.2014; Publisher: Stanchik A
footprint RESC1608N [0603] (Chip Resistor, Body 1.6x0.8mm, IPC Medium Density)
signal-integrity model Resistor
pins: 1, 2

## R0603-0,062-39 кОм±1%
designator R?  value 39k
RES 39k OHM 1/10W 1% 0603 SMD; Manufacturer: Vishay Dale; ManufacturerPartNumber: CRCW060339K0FK; Group: 9130; RegulationProcent: 10; TypeName: Резистор; Distributor: Digi-Key; DistributorPartNumber: 541-39.0KHCT-ND; LatestRevisionDate: 10.07.2013; Library: Resistor 0603; Package: 1608 [0603]; Published: 29.11.2013; Publisher: Auchinik
footprint RESC1608N [0603] (Chip Resistor, Body 1.6x0.8mm, IPC Medium Density)
signal-integrity model Resistor
pins: 1, 2

## R0603-0,062-40,2 кОм±1%
designator R?  value 40,2k
RES SMD 40.2K OHM 1% 1/10W 0603; Manufacturer: Vishay Dale; ManufacturerPartNumber: CRCW060340K2FK; Group: 9130; RegulationProcent: 10; TypeName: Резистор; Distributor: Digi-Key; DistributorPartNumber: 541-40.2KHCT-ND; LatestRevisionDate: 28.08.2017; Library: Resistor 0603; Package: 1608 [0603]; Published: 28.08.2017; Publisher: Stanchik A
footprint RESC1608N [0603] (Chip Resistor, Body 1.6x0.8mm, IPC Medium Density)
signal-integrity model Resistor
pins: 1, 2

## R0603-0,062-47 кОм±1%
designator R?  value 47k
RES SMD 47K OHM 1% 1/10W 0603; Manufacturer: Vishay Dale; ManufacturerPartNumber: CRCW060347K0FK; Group: 9130; RegulationProcent: 10; TypeName: Резистор; Distributor: Digi-Key; DistributorPartNumber: 541-47.0KHCT-ND; LatestRevisionDate: 16.09.2015; Library: Resistor 0603; Package: 1608 [0603]; Published: 16.09.2015; Publisher: Stanchik A
footprint RESC1608N [0603] (Chip Resistor, Body 1.6x0.8mm, IPC Medium Density)
signal-integrity model Resistor
pins: 1, 2

## R0603-0,062-47 кОм±5%
designator R?  value 47k
RES 47K OHM 1/10W 5% 0603 SMD; Manufacturer: Vishay Dale; ManufacturerPartNumber: CRCW060347K0JN; Group: 9130; RegulationProcent: 10; TypeName: Резистор; Distributor: Digi-Key; DistributorPartNumber: 541-47KGCT-ND; LatestRevisionDate: 10.07.2013; Library: Resistor 0603; Package: 1608 [0603]; Published: 10.07.2013; Publisher: Konon DI
footprint RESC1608N [0603] (Chip Resistor, Body 1.6x0.8mm, IPC Medium Density)
signal-integrity model Resistor
pins: 1, 2

## R0603-0,062-47 Ом±5%
designator R?  value 47
RES SMD 47 OHM 5% 1/10W 0603; Manufacturer: Vishay Dale; ManufacturerPartNumber: CRCW060347R0JN; Group: 9130; RegulationProcent: 10; TypeName: Резистор; Distributor: Digi-Key; DistributorPartNumber: 541-47GCT-ND; LatestRevisionDate: 24.10.2016; Library: Resistor 0603; Package: 1608 [0603]; Published: 24.10.2016; Publisher: Stanchik A
footprint RESC1608N [0603] (Chip Resistor, Body 1.6x0.8mm, IPC Medium Density)
signal-integrity model Resistor
pins: 1, 2

## R0603-0,062-49,9 Ом±1%
designator R?  value 49,9
RES SMD 49.9 OHM 1% 1/10W 0603; Manufacturer: Vishay Dale; ManufacturerPartNumber: CRCW060349R9FK; Group: 9130; RegulationProcent: 10; TypeName: Резистор; Distributor: Digi-Key; DistributorPartNumber: 541-49.9HCT-ND; LatestRevisionDate: 04.03.2016; Library: Resistor 0603; Package: 1608 [0603]; Published: 04.03.2016; Publisher: Stanchik A
footprint RESC1608N [0603] (Chip Resistor, Body 1.6x0.8mm, IPC Medium Density)
signal-integrity model Resistor
pins: 1, 2

## R0603-0,062-51 кОм±1%
designator R?  value 51k
RES 51.0K OHM 1/10W 1% 0603 SMD; Manufacturer: Vishay Dale; ManufacturerPartNumber: CRCW060351K0FK; Group: 9130; RegulationProcent: 10; TypeName: Резистор; Distributor: Digi-Key; DistributorPartNumber: 541-51.0KHDKR-ND; LatestRevisionDate: 11.08.2014; Library: Resistor 0603; Package: 1608 [0603]; Published: 11.08.2014; Publisher: Stanchik A
footprint RESC1608N [0603] (Chip Resistor, Body 1.6x0.8mm, IPC Medium Density)
signal-integrity model Resistor
pins: 1, 2

## R0603-0,062-57,6 кОм±1%
designator R?  value 57,6k
RES SMD 57.6K OHM 1% 1/10W 0603; Manufacturer: Vishay Dale; ManufacturerPartNumber: CRCW060357K6FK; Group: 9130; RegulationProcent: 10; TypeName: Резистор; Distributor: Digi-Key; DistributorPartNumber: 541-57.6KHCT-ND; LatestRevisionDate: 14.07.2017; Library: Resistor 0603; Package: 1608 [0603]; Published: 14.07.2017; Publisher: Stanchik A
footprint RESC1608N [0603] (Chip Resistor, Body 1.6x0.8mm, IPC Medium Density)
signal-integrity model Resistor
pins: 1, 2

## R0603-0,062-62 кОм±1%
designator R?  value 62k
RES 62k OHM 1/10W 1% 0603 SMD; Manufacturer: Vishay Dale; ManufacturerPartNumber: CRCW060362K0FK; Group: 9130; RegulationProcent: 10; TypeName: Резистор; Distributor: Digi-Key; DistributorPartNumber: 541-62.0KHCT-ND; LatestRevisionDate: 10.07.2013; Library: Resistor 0603; Package: 1608 [0603]; Published: 29.11.2013; Publisher: Auchinik
footprint RESC1608N [0603] (Chip Resistor, Body 1.6x0.8mm, IPC Medium Density)
signal-integrity model Resistor
pins: 1, 2

## R0603-0,062-75 кОм±1%
designator R?  value 75k
RES SMD 75K OHM 1% 1/10W 0603; Manufacturer: Vishay Dale; ManufacturerPartNumber: CRCW060375K0FK; Group: 9130; RegulationProcent: 10; TypeName: Резистор; Distributor: Digi-Key; DistributorPartNumber: 541-75.0KHCT-ND; LatestRevisionDate: 19.05.2016; Library: Resistor 0603; Package: 1608 [0603]; Published: 19.05.2016; Publisher: Stanchik A
footprint RESC1608N [0603] (Chip Resistor, Body 1.6x0.8mm, IPC Medium Density)
signal-integrity model Resistor
pins: 1, 2

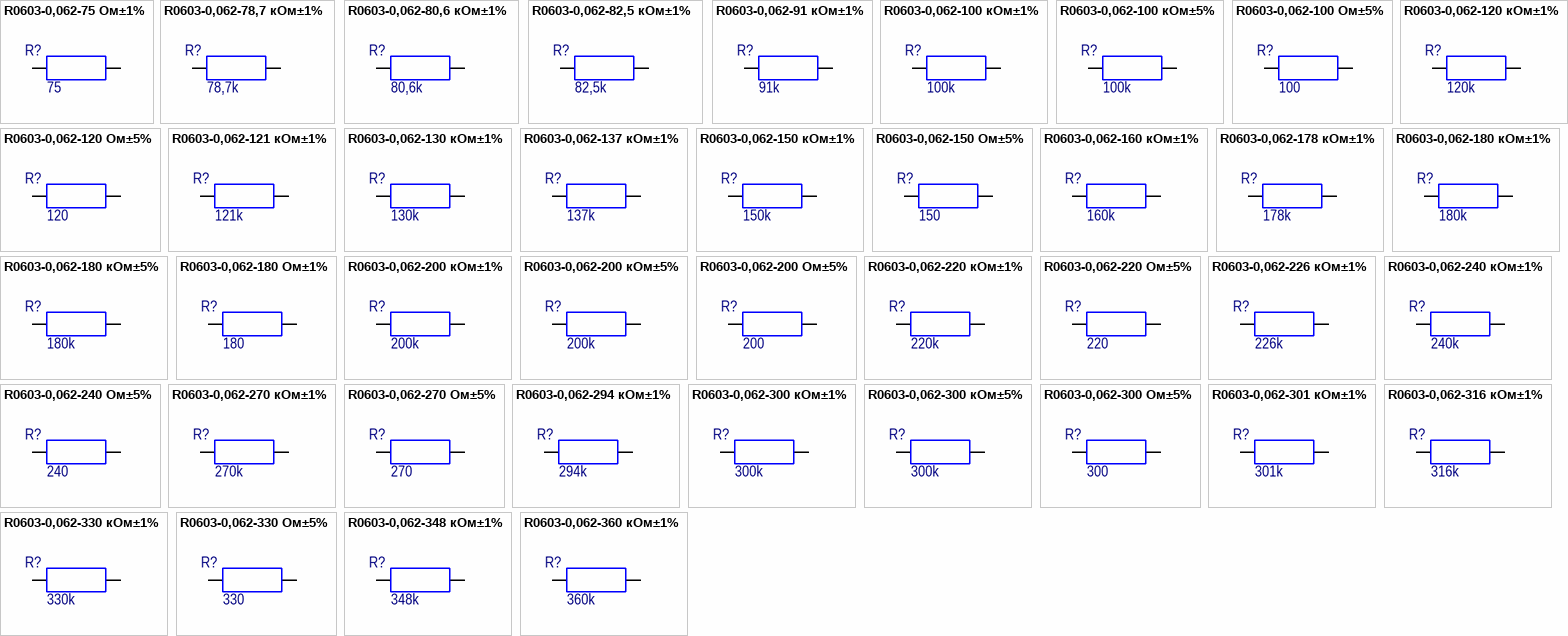
[diagram p2: symbols R0603-0,062-75 Ом±1% to R0603-0,062-360 кОм±1%]

## R0603-0,062-75 Ом±1%
designator R?  value 75
RES SMD 75 OHM 1% 1/10W 0603; Manufacturer: Vishay Dale; ManufacturerPartNumber: CRCW060375R0FK; Group: 9130; RegulationProcent: 10; TypeName: Резистор; Distributor: Digi-Key; DistributorPartNumber: 541-75.0HCT-ND; LatestRevisionDate: 23.09.2015; Library: Resistor 0603; Package: 1608 [0603]; Published: 23.09.2015; Publisher: Stanchik A
footprint RESC1608N [0603] (Chip Resistor, Body 1.6x0.8mm, IPC Medium Density)
signal-integrity model Resistor
pins: 1, 2

## R0603-0,062-78,7 кОм±1%
designator R?  value 78,7k
RES 78.7K OHM 1/10W 1% 0603 SMD; Manufacturer: Vishay Dale; ManufacturerPartNumber: CRCW060378K7FK; Group: 9130; RegulationProcent: 10; TypeName: Резистор; Distributor: Digi-Key; DistributorPartNumber: 541-78.7KHCT-ND; LatestRevisionDate: 10.07.2013; Library: Resistor 0603; Package: 1608 [0603]; Published: 10.07.2013; Publisher: Konon DI
footprint RESC1608N [0603] (Chip Resistor, Body 1.6x0.8mm, IPC Medium Density)
signal-integrity model Resistor
pins: 1, 2

## R0603-0,062-80,6 кОм±1%
designator R?  value 80,6k
RES SMD 80.6K OHM 1% 1/10W 0603; Manufacturer: Vishay Dale; ManufacturerPartNumber: CRCW060380K6FK; Group: 9130; RegulationProcent: 10; TypeName: Резистор; Distributor: Digi-Key; DistributorPartNumber: 541-80.6KHCT-ND; LatestRevisionDate: 16.07.2015; Library: Resistor 0603; Package: 1608 [0603]; Published: 16.07.2015; Publisher: Stanchik A
footprint RESC1608N [0603] (Chip Resistor, Body 1.6x0.8mm, IPC Medium Density)
signal-integrity model Resistor
pins: 1, 2

## R0603-0,062-82,5 кОм±1%
designator R?  value 82,5k
RES SMD 82.5K OHM 1% 1/10W 0603; Manufacturer: Vishay Dale; ManufacturerPartNumber: CRCW060382K5FK; Group: 9130; RegulationProcent: 10; TypeName: Резистор; Distributor: Digi-Key; DistributorPartNumber: 541-82.5KHCT-ND; LatestRevisionDate: 17.02.2015; Library: Resistor 0603; Package: 1608 [0603]; Published: 17.02.2015; Publisher: Stanchik A
footprint RESC1608N [0603] (Chip Resistor, Body 1.6x0.8mm, IPC Medium Density)
signal-integrity model Resistor
pins: 1, 2

## R0603-0,062-91 кОм±1%
designator R?  value 91k
RES SMD 91K OHM 1% 1/10W 0603; Manufacturer: Vishay Dale; ManufacturerPartNumber: CRCW060391K0FK; Group: 9130; RegulationProcent: 10; TypeName: Резистор; Distributor: Digi-Key; DistributorPartNumber: 541-91.0KHCT-ND; LatestRevisionDate: 19.06.2015; Library: Resistor 0603; Package: 1608 [0603]; Published: 19.06.2015; Publisher: Stanchik A
footprint RESC1608N [0603] (Chip Resistor, Body 1.6x0.8mm, IPC Medium Density)
signal-integrity model Resistor
pins: 1, 2

## R0603-0,062-100 кОм±1%
designator R?  value 100k
RES SMD 100K OHM 1% 1/10W 0603; Manufacturer: Vishay Dale; ManufacturerPartNumber: CRCW0603100KFK; Group: 9130; RegulationProcent: 10; TypeName: Резистор; Distributor: Digi-Key; DistributorPartNumber: 541-100KHCT-ND; LatestRevisionDate: 19.02.2015; Library: Resistor 0603; Package: 1608 [0603]; Published: 19.02.2015; Publisher: Stanchik A
footprint RESC1608N [0603] (Chip Resistor, Body 1.6x0.8mm, IPC Medium Density)
signal-integrity model Resistor
pins: 1, 2

## R0603-0,062-100 кОм±5%
designator R?  value 100k
RES 100K OHM 1/10W 5% 0603 SMD; Manufacturer: Vishay Dale; ManufacturerPartNumber: CRCW0603100KJN; Group: 9130; RegulationProcent: 10; TypeName: Резистор; Distributor: Digi-Key; DistributorPartNumber: 541-100KGCT-ND; LatestRevisionDate: 10.07.2013; Library: Resistor 0603; Package: 1608 [0603]; Published: 10.07.2013; Publisher: Konon DI
footprint RESC1608N [0603] (Chip Resistor, Body 1.6x0.8mm, IPC Medium Density)
signal-integrity model Resistor
pins: 1, 2

## R0603-0,062-100 Ом±5%
designator R?  value 100
RES 100 OHM 1/10W 5% 0603 SMD; Manufacturer: Vishay Dale; ManufacturerPartNumber: CRCW0603100RJN; Group: 9130; RegulationProcent: 10; TypeName: Резистор; Distributor: Digi-Key; DistributorPartNumber: 541-100GCT-ND; LatestRevisionDate: 10.07.2013; Library: Resistor 0603; Package: 1608 [0603]; Published: 10.07.2013; Publisher: Konon DI
footprint RESC1608N [0603] (Chip Resistor, Body 1.6x0.8mm, IPC Medium Density)
signal-integrity model Resistor
pins: 1, 2

## R0603-0,062-120 кОм±1%
designator R?  value 120k
RES SMD 120K OHM 1% 1/10W 0603; Manufacturer: Vishay Dale; ManufacturerPartNumber: CRCW0603120KFK; Group: 9130; RegulationProcent: 10; TypeName: Резистор; Distributor: Digi-Key; DistributorPartNumber: 541-120KHCT-ND; LatestRevisionDate: 17.01.2018; Library: Resistor 0603; Package: 1608 [0603]; Published: 17.01.2018; Publisher: Stanchik A
footprint RESC1608N [0603] (Chip Resistor, Body 1.6x0.8mm, IPC Medium Density)
signal-integrity model Resistor
pins: 1, 2

## R0603-0,062-120 Ом±5%
designator R?  value 120
RES 120 OHM 1/10W 5% 0603 SMD; Manufacturer: Vishay Dale; ManufacturerPartNumber: CRCW0603120RJN; Group: 9130; RegulationProcent: 10; TypeName: Резистор; Distributor: Digi-Key; DistributorPartNumber: 541-120GCT-ND; LatestRevisionDate: 10.07.2013; Library: Resistor 0603; Package: 1608 [0603]; Published: 10.07.2013; Publisher: Konon DI
footprint RESC1608N [0603] (Chip Resistor, Body 1.6x0.8mm, IPC Medium Density)
signal-integrity model Resistor
pins: 1, 2

## R0603-0,062-121 кОм±1%
designator R?  value 121k
RES SMD 121K OHM 1% 1/10W 0603; Manufacturer: Vishay Dale; ManufacturerPartNumber: CRCW0603121KFK; Group: 9130; RegulationProcent: 10; TypeName: Резистор; Distributor: Digi-Key; DistributorPartNumber: 541-121KHCT-ND; LatestRevisionDate: 17.02.2015; Library: Resistor 0603; Package: 1608 [0603]; Published: 17.02.2015; Publisher: Stanchik A
footprint RESC1608N [0603] (Chip Resistor, Body 1.6x0.8mm, IPC Medium Density)
signal-integrity model Resistor
pins: 1, 2

## R0603-0,062-130 кОм±1%
designator R?  value 130k
RES 130K OHM 1/10W 1% 0603 SMD; Manufacturer: Vishay Dale; ManufacturerPartNumber: CRCW0603130KFK; Group: 9130; RegulationProcent: 10; TypeName: Резистор; Distributor: Digi-Key; DistributorPartNumber: 541-130KHDKR-ND; LatestRevisionDate: 19.11.2014; Library: Resistor 0603; Package: 1608 [0603]; Published: 19.11.2014; Publisher: Stanchik A
footprint RESC1608N [0603] (Chip Resistor, Body 1.6x0.8mm, IPC Medium Density)
signal-integrity model Resistor
pins: 1, 2

## R0603-0,062-137 кОм±1%
designator R?  value 137k
RES SMD 137K OHM 1% 1/10W 0603; Manufacturer: Vishay Dale; ManufacturerPartNumber: CRCW0603137KFK; Group: 9130; RegulationProcent: 10; TypeName: Резистор; Distributor: Digi-Key; DistributorPartNumber: 541-137KHCT-ND; LatestRevisionDate: 28.08.2017; Library: Resistor 0603; Package: 1608 [0603]; Published: 28.08.2017; Publisher: Stanchik A
footprint RESC1608N [0603] (Chip Resistor, Body 1.6x0.8mm, IPC Medium Density)
signal-integrity model Resistor
pins: 1, 2

## R0603-0,062-150 кОм±1%
designator R?  value 150k
RES 150K OHM 1/10W 1% 0603 SMD; Manufacturer: Vishay Dale; ManufacturerPartNumber: CRCW0603150KFK; Group: 9130; RegulationProcent: 10; TypeName: Резистор; Distributor: Digi-Key; DistributorPartNumber: 541-150KHDKR-ND; LatestRevisionDate: 19.11.2014; Library: Resistor 0603; Package: 1608 [0603]; Published: 19.11.2014; Publisher: Stanchik A
footprint RESC1608N [0603] (Chip Resistor, Body 1.6x0.8mm, IPC Medium Density)
signal-integrity model Resistor
pins: 1, 2

## R0603-0,062-150 Ом±5%
designator R?  value 150
RES SMD 150 OHM 5% 1/10W 0603; Manufacturer: Vishay Dale; ManufacturerPartNumber: CRCW0603150RJN; Group: 9130; RegulationProcent: 10; TypeName: Резистор; Distributor: Digi-Key; DistributorPartNumber: 541-150GCT-ND; LatestRevisionDate: 06.04.2016; Library: Resistor 0603; Package: 1608 [0603]; Published: 06.04.2016; Publisher: Stanchik A
footprint RESC1608N [0603] (Chip Resistor, Body 1.6x0.8mm, IPC Medium Density)
signal-integrity model Resistor
pins: 1, 2

## R0603-0,062-160 кОм±1%
designator R?  value 160k
RES 160K OHM 1/10W 1% 0603 SMD; Manufacturer: Vishay Dale; ManufacturerPartNumber: CRCW0603160KFK; Group: 9130; RegulationProcent: 10; TypeName: Резистор; Distributor: Digi-Key; DistributorPartNumber: 541-160KHCT-ND; LatestRevisionDate: 24.09.2013; Library: Resistor 0603; Package: 1608 [0603]; Published: 24.09.2013; Publisher: Konon DI
footprint RESC1608N [0603] (Chip Resistor, Body 1.6x0.8mm, IPC Medium Density)
signal-integrity model Resistor
pins: 1, 2